# EAGLE library part LM5022 (library PP_PowerIC)
Manufacturer Part #: LM5022 Manufacturer: Texas Instruments Description: Switching Controllers 60V Low Side Controller
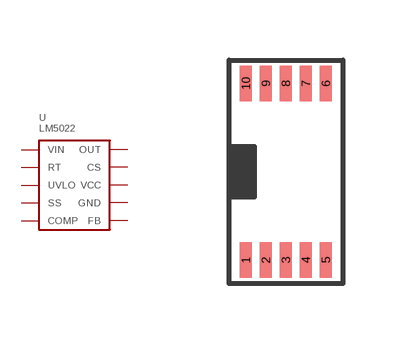
[diagram p2: symbol with the pads of LM5022_MSOP-10; footprint LM5022_MSOP-10]

Designator prefix U

## LM5022  [LM5022_MSOP-10]
1  VIN
2  FB
3  COMP
4  VCC
5  OUT
6  GND
7  UVLO
8  CS
9  RT
10  SS

## Footprint LM5022_MSOP-10 (pad centres in mm)
smd 0.305 x 0.889: 1 -1,-2.209; 2 -0.5,-2.209; 3 0,-2.209; 4 0.5,-2.209; 5 1,-2.209; 6 1,2.209; 7 0.5,2.209; 8 0,2.209; 9 -0.5,2.209; 10 -1,2.209